# Altium footprint library MM8030-2610RJ3.PcbLib: 1 footprints
Each footprint in its own frame and in the unit in brackets; x right, y up, seen from the top. Pads: shape width x height; smd on the part's side, far side on the other; paste and mask are expansions set on the pad; w line width, h text height; cw(c..) or ccw(c..) is an arc to the next point about the centre after c.
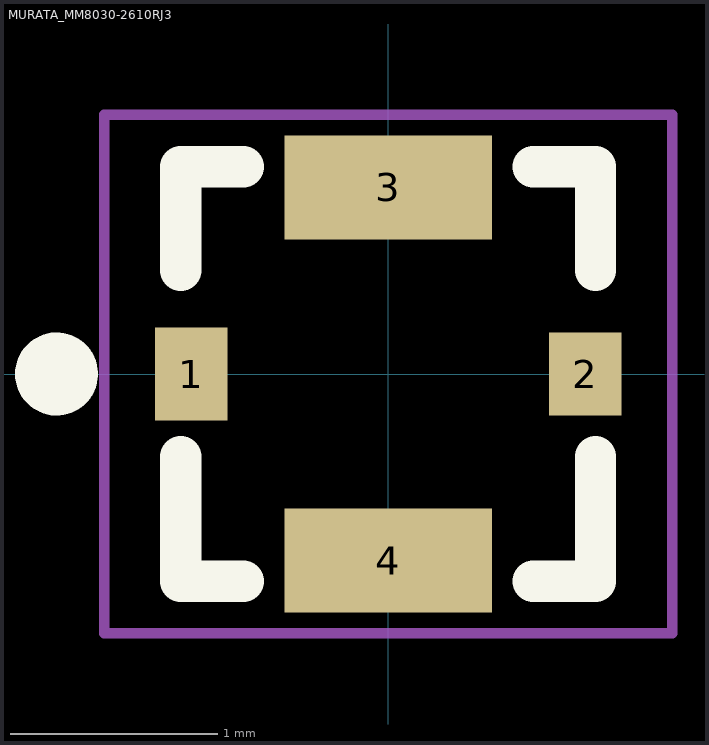
[diagram p0: the footprint, top view; thin cyan lines are the x and y axes]

## MURATA_MM8030-2610RJ3 [mm]
pads (4):
  rect 0.35x0.45 smd: 1(-0.95,0)
  rect 0.35x0.4 smd: 2(0.95,0)
  rect 1x0.5 smd: 3(0,0.9) 4(0,-0.9)
Top Overlay:
  circle w0.2: c-1.6,0 r0.1
  lines w0.2: -1,-0.4 -1,-1 -0.7,-1 ; -1,0.5 -1,1 -0.7,1 ; 0.7,-1 1,-1 1,-0.4 ; 0.7,1 1,1 1,0.5
Mechanical 15:
  lines w0.05: -1.37,-1.25 -1.37,1.25 -1.35,1.25 1.37,1.25 1.37,-1.25 -1.37,-1.25
3D body "MM8030-2610RJ3--3DModel-STEP-56544.STEP": height 0.9, standoff 0, extent -1.05,-1 1.05,1